# EAGLE library part DS3231 (library usb)
Real-Time Clock DS3231
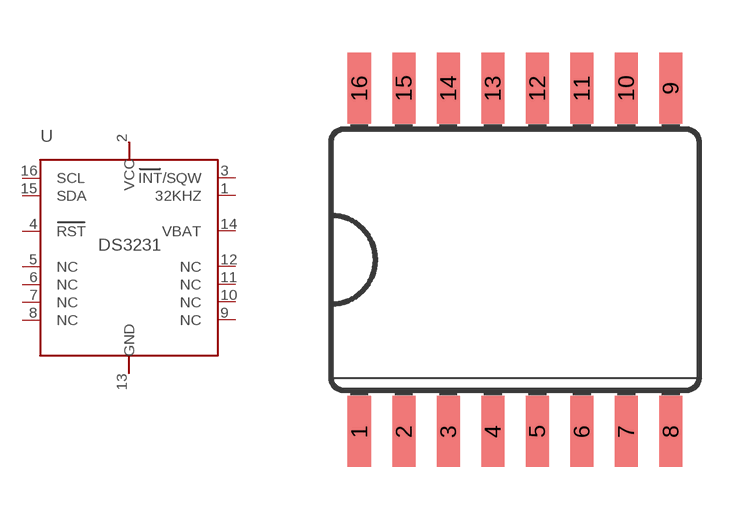
[diagram p10: symbol with the pads of SO16L; footprint SO16L]

Designator prefix U

## DS3231  [SO16L]
1  32KHZ
2  VCC  pwr
3  INT/SQW
4  RST
5  NC
6  NC
7  NC
8  NC
9  NC
10  NC
11  NC
12  NC
13  GND  pwr
14  VBAT
15  SDA
16  SCL

## Footprint SO16L (pad centres in mm)
Small Outline Package
smd 0.66 x 2.032: 1 -4.445,-4.902; 2 -3.175,-4.902; 3 -1.905,-4.902; 4 -0.635,-4.902; 5 0.635,-4.902; 6 1.905,-4.902; 7 3.175,-4.902; 8 4.445,-4.902; 9 4.445,4.902; 10 3.175,4.902; 11 1.905,4.902; 12 0.635,4.902; 13 -0.635,4.902; 14 -1.905,4.902; 15 -3.175,4.902; 16 -4.445,4.902